# Altium schematic symbol library MYRBP500080B21RE.SchLib: 1 symbol
Pins are listed as number, name and electrical type; pins without a type are passive.

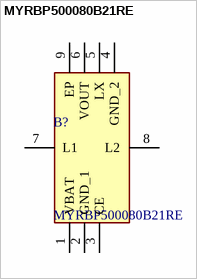
[diagram p0: symbol MYRBP500080B21RE]

## MYRBP500080B21RE
designator B?
Non-Isolated DC/DC Converters; Manufacturer_Name: Murata Electronics; Geometry.Height: 1.04mm; Mouser Part Number: 81-MYRBP500080B21RE; Mouser Price/Stock: https://www.mouser.co.uk/ProductDetail/Murata-Electronics/MYRBP500080B21RE?qs=hd1VzrDQEGi2HKFlO8%252BP9Q%3D%3D; Manufacturer_Part_Number: MYRBP500080B21RE; Datasheet Link: https://www.murata.com/products/productdata/8809985572894/MYRBP-B-W.pdf?1604930424000
footprint MYRBP500080B21RE
pins: 1 VBAT, 2 GND_1, 3 CE, 4 GND_2, 5 LX, 6 VOUT, 7 L1, 8 L2, 9 EP